# EAGLE library part SN75176A (library IC_Interface)
Differential Bus Transceiver Datasheet <http://focus.ti.com/lit/ds/symlink/sn75176a.pdf>
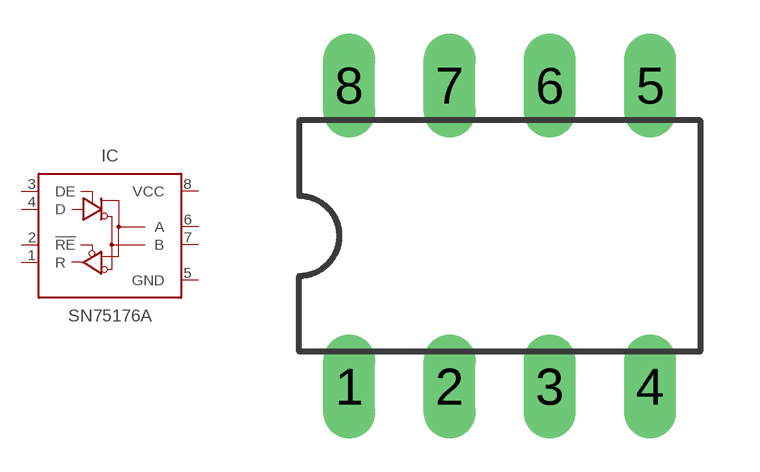
[diagram p8: symbol with the pads of DIL08; footprint DIL08]

Designator prefix IC

## SN75176A_DIP (CATEGORY: IC_Interface; MANUFACTURER: Texas Instruments; MPN: SN75176A; SUB-CATEGORY: Transceiver)  [DIL08]
1  R  in
2  !RE  in
3  DE  in
4  D  in
5  GND  pwr
6  A  out
7  B  out
8  VCC  pwr

## Footprint DIL08 (pad centres in mm)
Dual In Line Package
drill 0.813 long: 1 -3.81,-3.81; 2 -1.27,-3.81; 3 1.27,-3.81; 4 3.81,-3.81; 5 3.81,3.81; 6 1.27,3.81; 7 -1.27,3.81; 8 -3.81,3.81